# Altium footprint library DFN3030-10.PcbLib: 1 footprints
Each footprint in its own frame and in the unit in brackets; x right, y up, seen from the top. Pads: shape width x height; smd on the part's side, far side on the other; paste and mask are expansions set on the pad; w line width, h text height; cw(c..) or ccw(c..) is an arc to the next point about the centre after c.
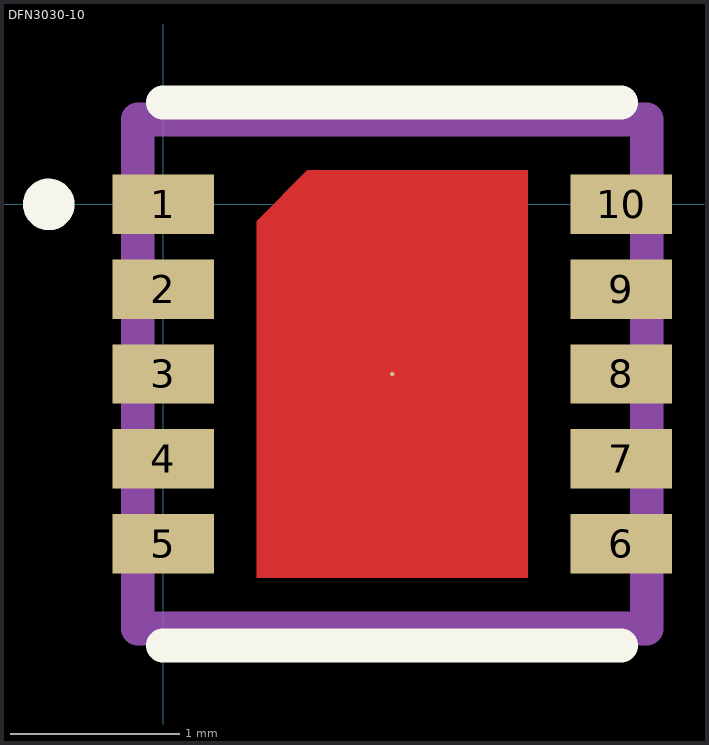
[diagram p0: the footprint, top view; thin cyan lines are the x and y axes]

## DFN3030-10 [mm]
pads (11):
  rect 0.6x0.35 smd mask+0.051: 1(0,0) 2(0,-0.5) 3(0,-1) 4(0,-1.5) 5(0,-2) 6(2.7,-2) 7(2.7,-1.5) 8(2.7,-1) 9(2.7,-0.5) 10(2.7,0)
  round 0.025 smd mask+0.051: 11(1.35,-1)
Top Layer:
  region: 0.85,0.2 0.55,-0.1 0.55,-2.2 2.15,-2.2 2.15,0.2
Top Overlay:
  circle w0.152: c-0.675,0 r0.076
  lines w0.2: 0,-2.6 2.7,-2.6 ; 0,0.6 2.7,0.6
Mechanical 13:
  lines w0.2: -0.15,-2.5 2.85,-2.5 2.85,0.5 -0.15,0.5 -0.15,-2.5
3D body "DFN3030-10_STP.stp": height 0.6, standoff 0, extent -0.15,-2.5 2.85,0.5